# EAGLE library part CONN,USB,5PIN,TYPE-B (library 0_MyLIB)
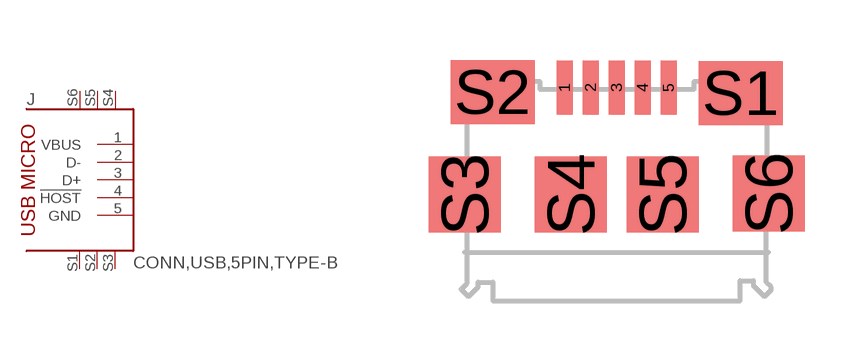
[diagram p6: symbol with the pads of CONN,USB,MIRCO,TYPE-B; footprint CONN,USB,MIRCO,TYPE-B]

Designator prefix J

## CONN,USB,5PIN,TYPE-B  [CONN,USB,MIRCO,TYPE-B]
1  VBUS  pwr
2  D-
3  D+
4  !HOST  pas
5  GND  pwr
S1  S
S2  S
S3  S
S4  S
S5  S
S6  S

## Footprint CONN,USB,MIRCO,TYPE-B (pad centres in mm)
smd 0.4 x 1.35: 1 -1.3,2.675; 2 -0.65,2.675; 3 0,2.675; 4 0.65,2.675; 5 1.3,2.675
smd 2.1 x 1.6: S1 3.1,2.54; S2 -3.1,2.565
smd 1.8 x 1.9: S3 -3.8,0; S4 -1.15,0; S5 1.15,0; S6 3.8,0.025